# Altium schematic symbol library Oscillators.SchLib: 2 symbols
Pins are listed as number, name and electrical type; pins without a type are passive.

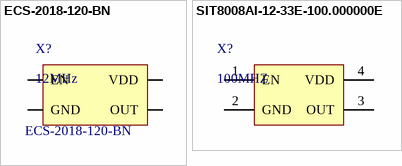
[diagram p0: symbols ECS-2018-120-BN to SIT8008AI-12-33E-100.000000E]

## ECS-2018-120-BN
designator X?, comment 12MHz  Manufacturer Part Number 1: ECS-2018-120-BN
Manufacturer 1: ECS Inc
footprint DFN130P200X90-4N (DFN, 4-Leads, Body 2.45x2.00mm, Pitch 1.30mm, IPC Medium Density)
pins: 1 EN, 2 GND, 3 OUT, 4 VDD

## SIT8008AI-12-33E-100.000000E
designator X?, comment 100MHZ
footprint SIT8008AI-12-33E-100.000000E
pins: 1 EN, 2 GND, 3 OUT, 4 VDD